# Altium footprint library T498X476K035ATE500.PcbLib: 3 footprints
Each footprint in its own frame and in the unit in brackets; x right, y up, seen from the top. Pads: shape width x height; smd on the part's side, far side on the other; paste and mask are expansions set on the pad; w line width, h text height; cw(c..) or ccw(c..) is an arc to the next point about the centre after c.
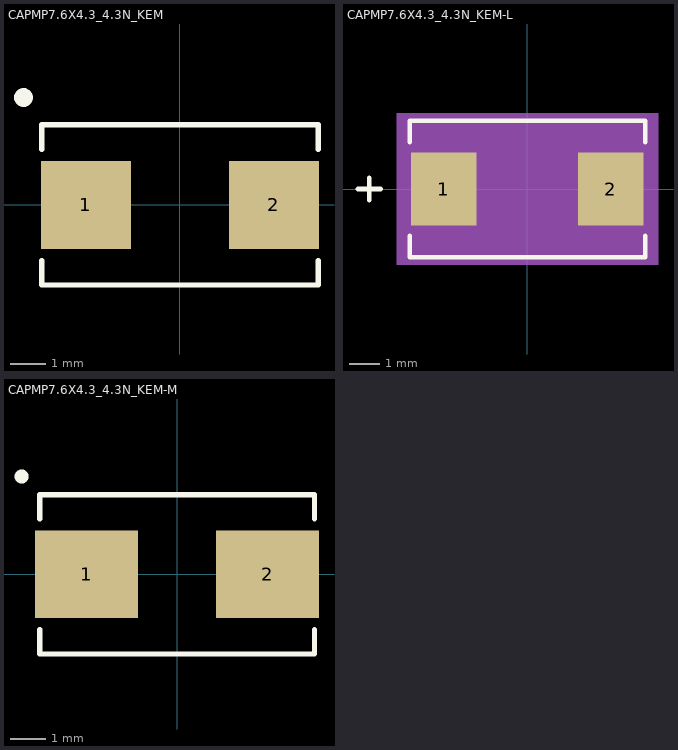
[diagram p0: the footprints below, top view; thin cyan lines are the x and y axes]

## CAPMP7.6X4.3_4.3N_KEM [mm]
pads (2):
  rect 2.56x2.5 smd paste+0 mask+0: 1(-2.672,0) 2(2.672,0)
Top Overlay:
  circle w0.279: c-4.445,3.048 r0.127
  lines w0.152: -3.927,-1.583 -3.927,-2.277 3.927,-2.277 3.927,-1.583 ; -3.927,1.583 -3.927,2.277 3.927,2.277 3.927,1.583
3D body "CAPMP76X43_43N_KEM.step": height 4.35, standoff 0, extent -3.8,-2.15 3.8,2.15

## CAPMP7.6X4.3_4.3N_KEM-L [mm]
pads (2):
  rect 2.179x2.449 smd paste+0 mask+0: 1(-2.786,0) 2(2.786,0)
Top Overlay:
  lines w0.152: -5.646,0 -4.884,0 ; -5.265,-0.381 -5.265,0.381 ; -3.927,-1.553 -3.927,-2.277 3.927,-2.277 3.927,-1.553 ; -3.927,1.553 -3.927,2.277 3.927,2.277 3.927,1.553
Mechanical 5:
  region: 4.359,-2.531 -4.359,-2.531 -4.359,2.531 4.359,2.531
Mechanical 13:
  lines w0.025: -5.646,0 -4.884,0 ; -5.265,-0.381 -5.265,0.381 ; -3.8,-2.15 -3.8,2.15 3.8,2.15 3.8,-2.15 -3.8,-2.15
Mechanical 15:
  region: -3.902,-1.326 -3.978,-1.326 -3.978,1.326 -3.902,1.326 -3.902,2.252 3.902,2.252 3.902,1.326 3.978,1.326 3.978,-1.326 3.902,-1.326 3.902,-2.252 -3.902,-2.252
  lines w0.152: -3.978,-1.326 -3.902,-1.326 -3.902,-2.252 3.902,-2.252 3.902,-1.326 3.978,-1.326 3.978,1.326 3.902,1.326 3.902,2.252 -3.902,2.252 -3.902,1.326 -3.978,1.326 -3.978,-1.326
3D body: height 0.25, standoff 0, extent 0,0 0.254,0.254

## CAPMP7.6X4.3_4.3N_KEM-M [mm]
pads (2):
  rect 2.941x2.5 smd paste+0 mask+0: 1(-2.583,0) 2(2.583,0)
Top Overlay:
  circle w0.254: c-4.445,2.794 r0.073
  lines w0.152: -3.927,-1.583 -3.927,-2.277 3.927,-2.277 3.927,-1.583 ; -3.927,1.583 -3.927,2.277 3.927,2.277 3.927,1.583
3D body "CAPMP76X43_43N_KEM.step": height 4.35, standoff 0, extent -3.8,-2.15 3.8,2.15
3D body: height 0.25, standoff 0, extent 0,0 0.254,0.254